# EAGLE library part 2SMPB-01-01 (library custom-devices)
Pressure Sensor
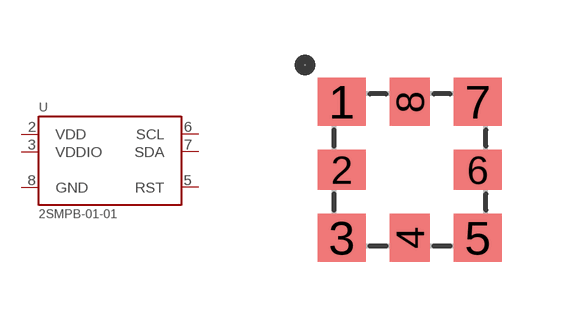
[diagram p15: symbol with the pads of 2SMPB-01-01; footprint 2SMPB-01-01]

Designator prefix U

## 2SMPB-01-01 (DIGI-KEY: Z4261-ND; MOUSER: 653-2SMPB-01-01)  [2SMPB-01-01]
2  VDD  pwr
3  VDDIO  pas
5  RST
6  SCL
7  SDA
8  GND  pwr

## Footprint 2SMPB-01-01 (pad centres in mm)
smd 1.2 x 1.2: 1 -1.7,1.7; 3 -1.7,-1.7; 5 1.7,-1.7; 7 1.7,1.7
smd 1.2 x 1: 2 -1.7,0; 6 1.7,0
smd 1 x 1.2: 4 0,-1.7; 8 0,1.7